# EAGLE library part HEF4047BT (library NXP_By_element14_Batch_1)
Monostable/astable multivibrator
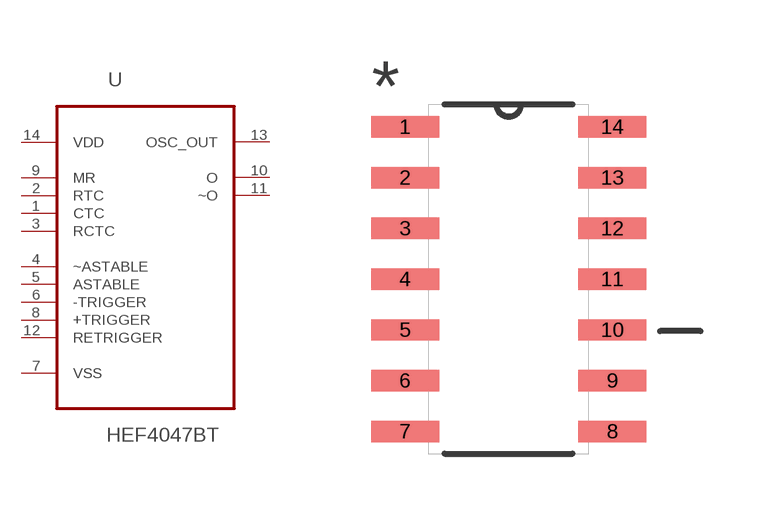
[diagram p255: symbol with the pads of SOIC127P600X175-14N; footprint SOIC127P600X175-14N]

Designator prefix U

## HEF4047BT (MPN: HEF4047BT; OC_FARNELL: 1085284; OC_NEWARK: 97K1291; PACKAGE: SOIC-14; SUPPLIER: NXP)  [SOIC127P600X175-14N]
1  CTC  in
2  RTC  in
3  RCTC  in
4  ~ASTABLE  in
5  ASTABLE  in
6  -TRIGGER  in
7  VSS  pas
8  +TRIGGER  in
9  MR  in
10  O  out
11  ~O  out
12  RETRIGGER  in
13  OSC_OUT  out
14  VDD  pwr

## Footprint SOIC127P600X175-14N (pad centres in mm)
smd 1.702 x 0.533: 1 -2.591,3.81; 2 -2.591,2.54; 3 -2.591,1.27; 4 -2.591,0; 5 -2.591,-1.27; 6 -2.591,-2.54; 7 -2.591,-3.81; 8 2.591,-3.81; 9 2.591,-2.54; 10 2.591,-1.27; 11 2.591,0; 12 2.591,1.27; 13 2.591,2.54; 14 2.591,3.81